# Altium schematic symbol library CON_USB_TypeB_TH.SchLib: 1 symbol
Pins are listed as number, name and electrical type; pins without a type are passive.

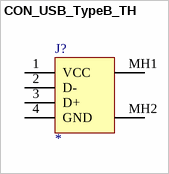
[diagram p0: symbol CON_USB_TypeB_TH]

## CON_USB_TypeB_TH
designator J?
pins: 1 VCC, 2 D-, 3 D+, 4 GND, MH1, MH2